# Altium schematic symbol library STM.SchLib: 3 symbols
Pins are listed as number, name and electrical type; pins without a type are passive.

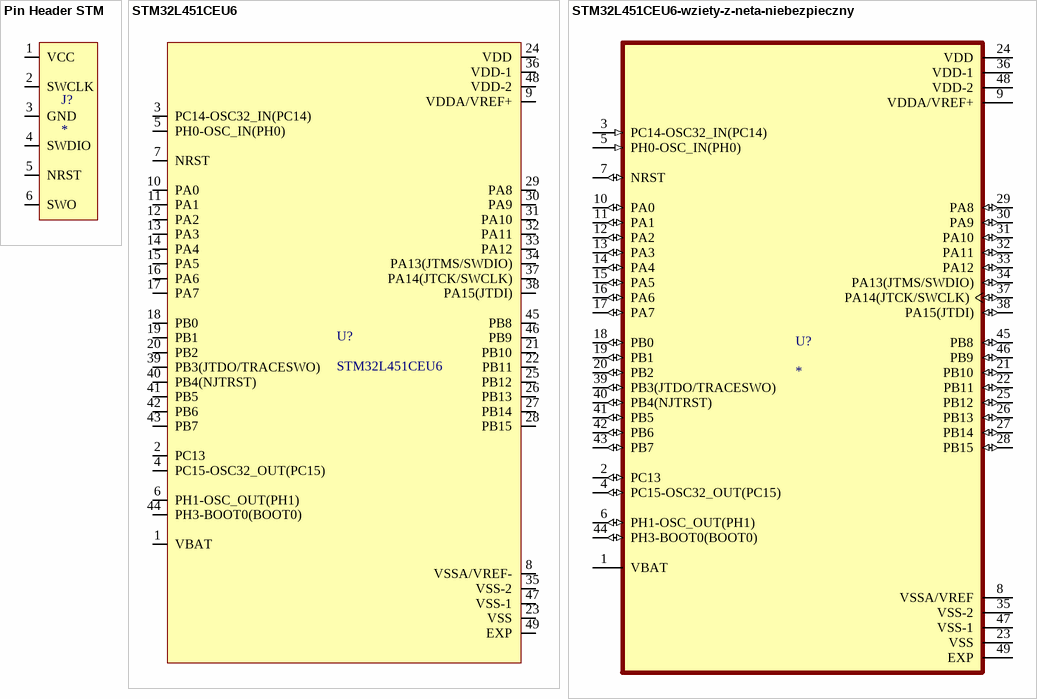
[diagram p0: symbols Pin Header STM to STM32L451CEU6-wziety-z-neta-niebezpieczny]

## Pin Header STM
designator J?
footprint SAMTEC_TSW-112-16-T-S-05
pins: 1 VCC, 2 SWCLK, 3 GND, 4 SWDIO, 5 NRST, 6 SWO

## STM32L451CEU6
designator U?
footprint QFN50P700X700X60-49N
pins: 1 VBAT, 2 PC13, 3 PC14-OSC32_IN(PC14), 4 PC15-OSC32_OUT(PC15), 5 PH0-OSC_IN(PH0), 6 PH1-OSC_OUT(PH1), 7 NRST, 8 VSSA/VREF-, 9 VDDA/VREF+, 10 PA0, 11 PA1, 12 PA2, 13 PA3, 14 PA4, 15 PA5, 16 PA6, 17 PA7, 18 PB0, 19 PB1, 20 PB2, 21 PB10, 22 PB11, 23 VSS, 24 VDD, 25 PB12, 26 PB13, 27 PB14, 28 PB15, 29 PA8, 30 PA9, 31 PA10, 32 PA11, 33 PA12, 34 PA13(JTMS/SWDIO), 35 VSS-2, 36 VDD-1, 37 PA14(JTCK/SWCLK), 38 PA15(JTDI), 39 PB3(JTDO/TRACESWO), 40 PB4(NJTRST), 41 PB5, 42 PB6, 43 PB7, 44 PH3-BOOT0(BOOT0), 45 PB8, 46 PB9, 47 VSS-1, 48 VDD-2, 49 EXP

## STM32L451CEU6-wziety-z-neta-niebezpieczny
designator U?
MP: STM32L451CEU6; Package: None; Price: None; Value: *; Availability: Unavailable
footprint QFN50P700X700X60-49N
pins: 1 VBAT, 2 PC13 (io), 3 PC14-OSC32_IN(PC14) (in), 4 PC15-OSC32_OUT(PC15) (io), 5 PH0-OSC_IN(PH0) (in), 6 PH1-OSC_OUT(PH1) (io), 7 NRST (io), 8 VSSA/VREF (power), 9 VDDA/VREF+ (power), 10 PA0 (io), 11 PA1 (io), 12 PA2 (io), 13 PA3 (io), 14 PA4 (io), 15 PA5 (io), 16 PA6 (io), 17 PA7 (io), 18 PB0 (io), 19 PB1 (io), 20 PB2 (io), 21 PB10 (io), 22 PB11 (io), 23 VSS (power), 24 VDD (power), 25 PB12 (io), 26 PB13 (io), 27 PB14 (io), 28 PB15 (io), 29 PA8 (io), 30 PA9 (io), 31 PA10 (io), 32 PA11 (io), 33 PA12 (io), 34 PA13(JTMS/SWDIO) (io), 35 VSS-2 (power), 36 VDD-1 (power), 37 PA14(JTCK/SWCLK) (io), 38 PA15(JTDI) (io), 39 PB3(JTDO/TRACESWO) (io), 40 PB4(NJTRST) (io), 41 PB5 (io), 42 PB6 (io), 43 PB7 (io), 44 PH3-BOOT0(BOOT0) (io), 45 PB8 (io), 46 PB9 (io), 47 VSS-1 (power), 48 VDD-2 (power), 49 EXP (power)